# Altium schematic symbol library BLDC_Motor_Lib.SchLib: 8 symbols
Pins are listed as number, name and electrical type; pins without a type are passive.

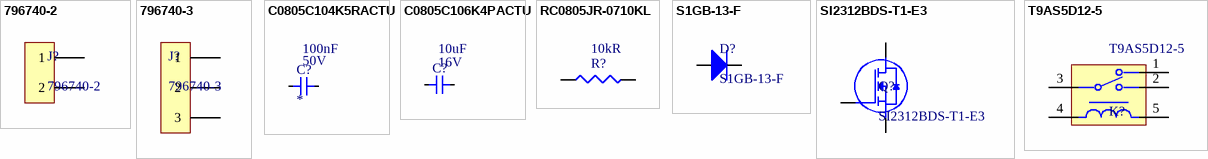
[diagram p0: symbols 796740-2 to T9AS5D12-5]

## 796740-2
designator J?
TERMINAL BLOCK, PLUG, 2POS, 24-10AWG; Manufacturer: TE Connectivity; Current Rating: 30A; Voltage Rating: 300V; Supplier 1: Digi-Key; Supplier Part Number 1: A98275-ND; Manufacturer Part Number: 796740-2
footprint 796740-2
pins: 1, 2

## 796740-3
designator J?
TERM BLK 3P SIDE ENT 6.35MM PCB; Manufacturer 1: TE Connectivity AMP Connectors; Supplier Part Number 1: A98276-ND; Manufacturer Part Number 1: 796740-3; Supplier 1: Digi-Key
footprint 796740-3
pins: 1, 2, 3

## C0805C104K5RACTU
designator C?  Voltage Rating: 50V  Capacitance: 100nF
Cap Ceramic 0.1uF 50V X7R 10% SMD 2.0 x 1.2 mm 125 C Paper T/R; Manufacturer 1: KEMET; Manufacturer Part Number 1: C0805C104K5RACTU; Case/Package: 0805; Supplier 1: Digi-Key; Supplier Part Number 1: 399-1170-1-ND
footprint C0805C104K5RACTU
pins: 1, 2

## C0805C106K4PACTU
designator C?  Voltage Rating: 16V  Capacitance: 10uF  (hidden comment: *)
CERAMIC CAPACITOR, 10UF, 16V, X5R, 10%, 0805; Manufacturer 1: KEMET; Manufacturer Part Number 1: C0805C106K4PACTU; Supplier 1: Digi-Key; Supplier Part Number 1: 399-8012-1-ND; Case/Package: 0805
footprint C0805C106K4PACTU
pins: 1, 2

## RC0805JR-0710KL
designator R?  Resistance: 10kR  (hidden comment: *)
Res Thick Film 0805 10K Ohm 5% 1/8W ±100ppm/°C Molded SMD Paper T/R; Manufacturer 1: Yageo; Manufacturer Part Number 1: RC0805JR-0710KL; Supplier 1: Digi-Key; Supplier Part Number 1: 311-10KARCT-ND; Tolerance: 5%; Package: 0805
footprint RC0805JR-0710KL
pins: 1, 2

## S1GB-13-F
designator D?
Flyback Diode for SPDT; Manufacturer 1: Diodes Incorporated; VRRM: 325V; IFSM: 8.0A; Manufacturer Part Number 1: S1GB-13-F; Supplier 1: Digi-Key; Supplier Part Number 1: S1GB-FDICT-ND
footprint S1GB-13-F
pins: 1 + "Anode", 2 - "Cathode"

## SI2312BDS-T1-E3
designator Q?
MOSFET; Manufacturer 1: Vishay Siliconix; Manufacturer Part Number 1: SI2312BDS-T1-E3; Supplier 1: Digi-Key; Supplier Part Number 1: SI2312BDS-T1-E3CT-ND
footprint SI2312BDS-T1-E3
pins: 1 Gate, 2 Source, 3 Drain

## T9AS5D12-5
designator K?
RELAY GEN PURPOSE SPDT 20A 5V; Manufacturer 1: TE Connectivity Potter & Brumfield Relays; Contact Voltage Rating (AC): 277V; Current Rating: 30A; Coil Current: 200mA; Voltage Rating (DC): 5V; Coil Voltage (DC): 5V; Contact Current Rating: 20A; Manufacturer Part Number 1: T9AS5D12-5; Supplier 1: Digi-Key; Supplier Part Number 1: T9AS5D12-5-ND
footprint T9AS5D12-5
pins: 1 NC, 2 NO, 3 COM, 4, 5